# Altium footprint library Connector_Samtec_HSEC8.PcbLib: 133 footprints (part 1 of 9)
Each footprint in its own frame and in the unit in brackets; x right, y up, seen from the top. Pads: shape width x height; smd on the part's side, far side on the other; paste and mask are expansions set on the pad; w line width, h text height; cw(c..) or ccw(c..) is an arc to the next point about the centre after c.
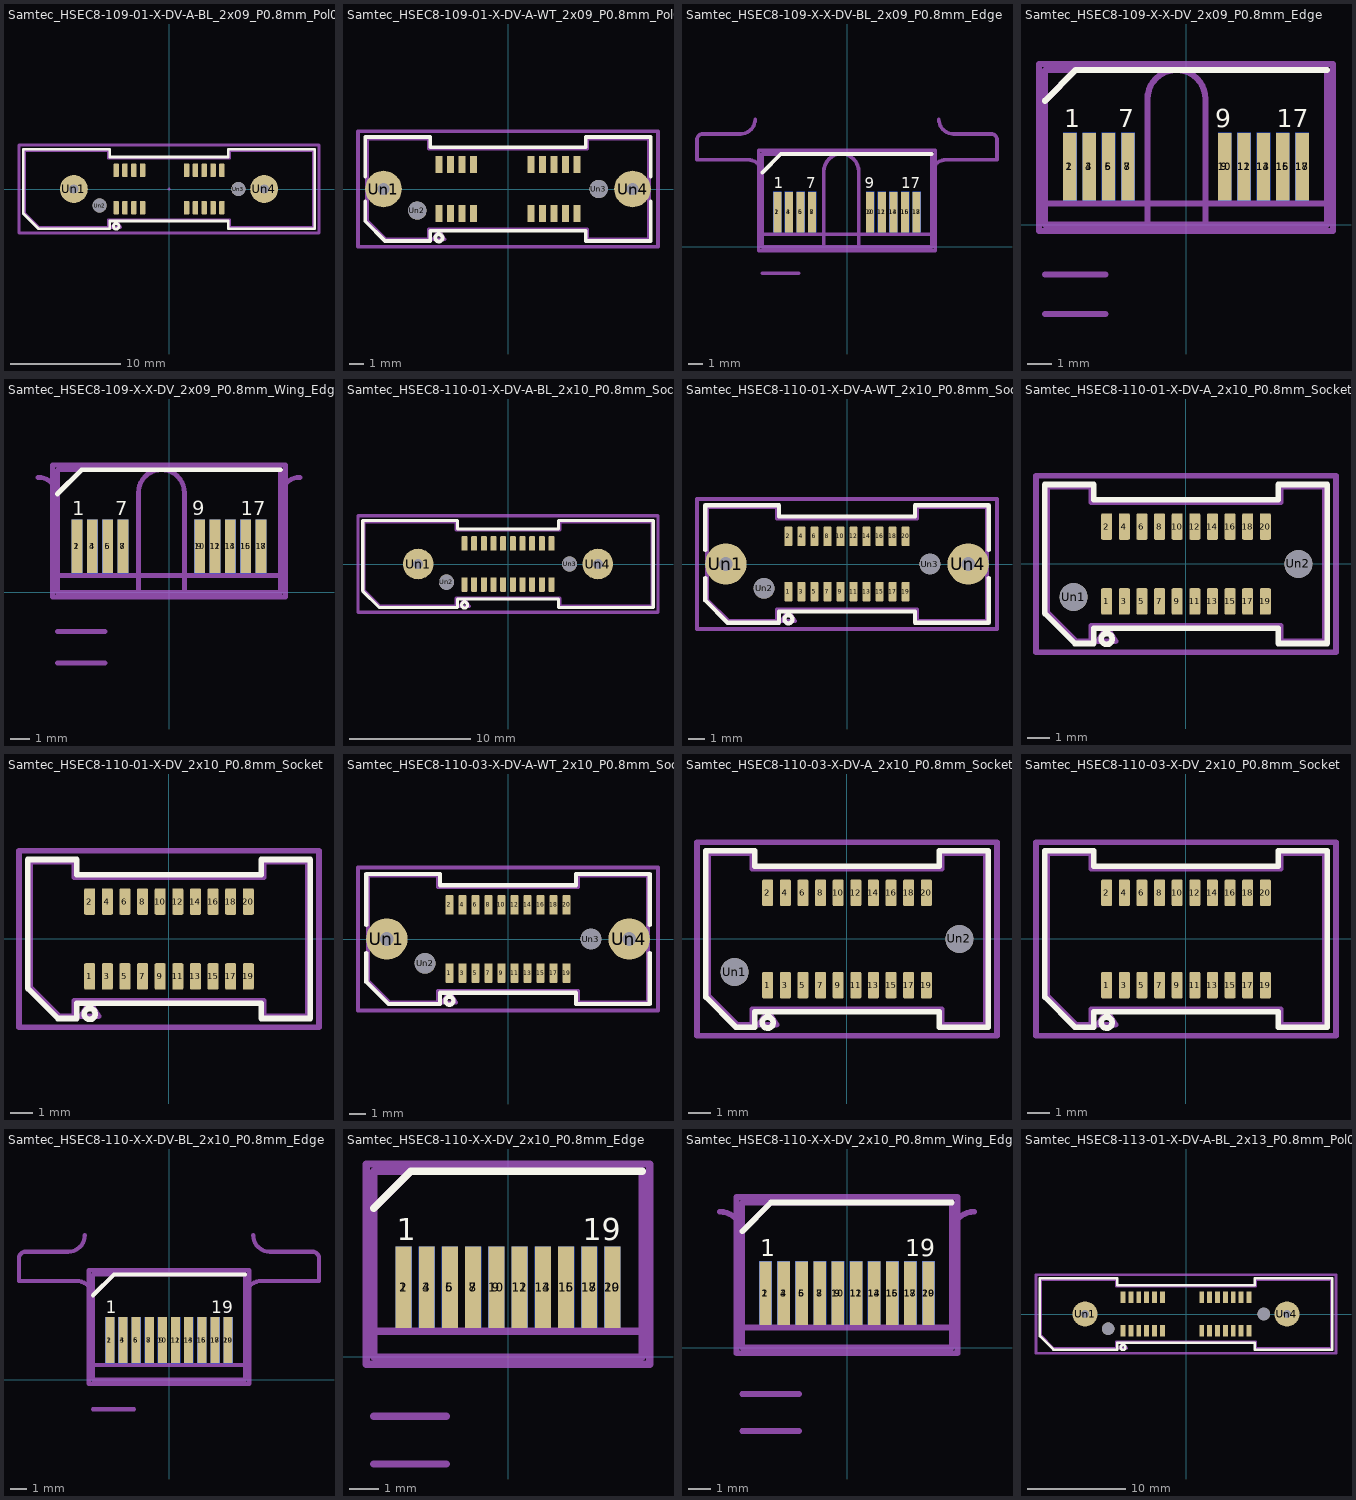
[diagram p0: the footprints below, top view; thin cyan lines are the x and y axes]

## Samtec_HSEC8-109-01-X-DV-A-BL_2x09_P0.8mm_Pol04_Socket_WeldTabs_BoardLocks [mm]
pads (22):
  rrect25% 0.5x1.2 smd: 1(-4.8,-1.7) 2(-4.8,1.7) 3(-4,-1.7) 4(-4,1.7) 5(-3.2,-1.7) 6(-3.2,1.7) 7(-2.4,-1.7) 8(-2.4,1.7) 9(1.6,-1.7) 10(1.6,1.7) 11(2.4,-1.7) 12(2.4,1.7) 13(3.2,-1.7) 14(3.2,1.7) 15(4,-1.7) 16(4,1.7) 17(4.8,-1.7) 18(4.8,1.7)
  round 2.54 hole 0.84: Un1(-8.65,0) Un4(8.65,0)
  round 1.27 hole 1.27: Un2(-6.3,-1.5) Un3(6.3,0)
F.SilkS:
  circle w0.254: c-4.8,-3.4 r0.25
  lines w0.254: -13.235,-2.246 -11.871,-3.61 -5.39,-3.61 -5.39,-2.91 5.39,-2.91 5.39,-3.61 13.235,-3.61 13.235,3.61 5.39,3.61 5.39,2.91 -5.39,2.91 -5.39,3.61 -13.235,3.61 -13.235,-2.246
Top Component Center:
  lines w0.127: -0.127,0 0.127,0 ; 0,-0.127 0,0.127
Top Assembly:
  lines w0.254: -13.125,-2.2 -11.825,-3.5 -5.5,-3.5 -5.5,-2.8 5.5,-2.8 5.5,-3.5 13.125,-3.5 13.125,3.5 5.5,3.5 5.5,2.8 -5.5,2.8 -5.5,3.5 -13.125,3.5 -13.125,-2.2 ; -5.2,-3.5 -4.4,-3.5 -4.8,-2.86 -5.2,-3.5
  text "'.Designator'" at -4.047,-0.84 h1
Top Courtyard:
  lines w0.254: -13.63,-4 13.63,-4 13.63,4 -13.63,4 -13.63,-4
Top Designator:
  text ".Designator" at -7.618,-0.508 h1.52

## Samtec_HSEC8-109-01-X-DV-A-WT_2x09_P0.8mm_Pol04_Socket_WeldTabs [mm]
pads (22):
  rrect25% 0.5x1.2 smd: 1(-4.8,-1.7) 2(-4.8,1.7) 3(-4,-1.7) 4(-4,1.7) 5(-3.2,-1.7) 6(-3.2,1.7) 7(-2.4,-1.7) 8(-2.4,1.7) 9(1.6,-1.7) 10(1.6,1.7) 11(2.4,-1.7) 12(2.4,1.7) 13(3.2,-1.7) 14(3.2,1.7) 15(4,-1.7) 16(4,1.7) 17(4.8,-1.7) 18(4.8,1.7)
  round 2.54 hole 0.84: Un1(-8.65,0) Un4(8.65,0)
  round 1.27 hole 1.27: Un2(-6.3,-1.5) Un3(6.3,0)
F.SilkS:
  circle w0.254: c-4.8,-3.4 r0.25
  lines w0.254: -9.91,-0.868 -9.91,-2.246 -8.546,-3.61 -5.39,-3.61 -5.39,-2.91 5.39,-2.91 5.39,-3.61 9.91,-3.61 9.91,-0.868 ; -9.91,0.868 -9.91,3.61 -5.39,3.61 -5.39,2.91 5.39,2.91 5.39,3.61 9.91,3.61 9.91,0.868
Top Assembly:
  lines w0.254: -9.8,-2.2 -8.5,-3.5 -5.5,-3.5 -5.5,-2.8 5.5,-2.8 5.5,-3.5 9.8,-3.5 9.8,3.5 5.5,3.5 5.5,2.8 -5.5,2.8 -5.5,3.5 -9.8,3.5 -9.8,-2.2 ; -5.2,-3.5 -4.4,-3.5 -4.8,-2.86 -5.2,-3.5
  text "'.Designator'" at -4.047,-0.84 h1
Top Courtyard:
  lines w0.254: -10.42,-4 10.42,-4 10.42,4 -10.42,4 -10.42,-4
Top Designator:
  text ".Designator" at -7.618,-0.508 h1.52

## Samtec_HSEC8-109-X-X-DV-BL_2x09_P0.8mm_Edge [mm]
pads (18):
  rect 0.55x2.8 smd: 1(-4.8,2.4) 3(-4,2.4) 5(-3.2,2.4) 7(-2.4,2.4) 9(1.6,2.4) 11(2.4,2.4) 13(3.2,2.4) 15(4,2.4) 17(4.8,2.4)
  rect 0.55x2.8 smd far side: 2(-4.8,2.4) 4(-4,2.4) 6(-3.2,2.4) 8(-2.4,2.4) 10(1.6,2.4) 12(2.4,2.4) 14(3.2,2.4) 16(4,2.4) 18(4.8,2.4)
F.SilkS:
  lines w0.254: -5.825,5.13 -4.555,6.4 5.825,6.4
  text "17" at 3.75,4.025 h0.75
  text "9" at 1.218,4.025 h0.75
  text "7" at -2.8,4.025 h0.75
  text "1" at -5.039,4.025 h0.75
B.SilkS:
  lines w0.254: -5.825,6.4 5.825,6.4
  text "18" at 5.1,4.025 h0.75
  text "10" at 2.65,4.025 h0.75
  text "8" at -2,4.025 h0.75
  text "2" at -4.4,4.025 h0.75
Top Assembly:
  lines w0.254: -5.825,0.88 5.825,0.88 ; -5.825,0 5.825,0 5.825,6.4 -4.555,6.4 -5.825,5.13 -5.825,0
  text "'.Designator'" at -4.047,1.7 h1
Bottom Assembly:
  lines w0.254: -5.825,0.88 5.825,0.88 ; -5.825,0 5.825,0 5.825,6.4 -5.825,6.4 -5.825,0
Top Courtyard:
  lines w0.254: -6.08,-0.25 6.08,-0.25 6.08,6.65 -6.08,6.65 -6.08,-0.25
Bottom Courtyard:
  lines w0.254: -6.08,-0.25 6.08,-0.25 6.08,6.65 -6.08,6.65 -6.08,-0.25
Top Designator:
  text ".Designator" at -4.93,2.485 h1.52
Board Shape:
  lines w0.254: -6.325,8.78 cw(c-7.325,8.78) -7.325,7.78 -9.925,7.78 ccw(c-9.925,7.38) -10.325,7.38 -10.325,6 -6.825,6 cw(c-6.825,5) -5.825,5 -5.825,0 -1.595,0 -1.595,5.2 cw(c-0.395,5.2) 0.805,5.2 0.805,0 5.825,0 5.825,5 cw(c6.825,5) 6.825,6 10.325,6 10.325,7.38 ccw(c9.925,7.38) 9.925,7.78 7.325,7.78 cw(c7.325,8.78) 6.325,8.78
Cmts.User:
  lines w0.254: -5.825,-1.8 -3.325,-1.8
  text "mated PCB distance: 1.80 mm (ref)" at -3.23,-2.521 h0.75
  text "Chamfer 30 degree 0.45 mm" at -7.868,-0.21 h0.75

## Samtec_HSEC8-109-X-X-DV_2x09_P0.8mm_Edge [mm]
pads (18):
  rect 0.55x2.8 smd: 1(-4.8,2.4) 3(-4,2.4) 5(-3.2,2.4) 7(-2.4,2.4) 9(1.6,2.4) 11(2.4,2.4) 13(3.2,2.4) 15(4,2.4) 17(4.8,2.4)
  rect 0.55x2.8 smd far side: 2(-4.8,2.4) 4(-4,2.4) 6(-3.2,2.4) 8(-2.4,2.4) 10(1.6,2.4) 12(2.4,2.4) 14(3.2,2.4) 16(4,2.4) 18(4.8,2.4)
F.SilkS:
  lines w0.254: -5.825,5.13 -4.555,6.4 5.825,6.4
  text "17" at 3.75,4.025 h0.75
  text "9" at 1.218,4.025 h0.75
  text "7" at -2.8,4.025 h0.75
  text "1" at -5.039,4.025 h0.75
B.SilkS:
  lines w0.254: -5.825,6.4 5.825,6.4
  text "18" at 5.1,4.025 h0.75
  text "10" at 2.65,4.025 h0.75
  text "8" at -2,4.025 h0.75
  text "2" at -4.4,4.025 h0.75
Top Assembly:
  lines w0.254: -5.825,0.88 5.825,0.88 ; -5.825,0 5.825,0 5.825,6.4 -4.555,6.4 -5.825,5.13 -5.825,0
  text "'.Designator'" at -4.047,1.7 h1
Bottom Assembly:
  lines w0.254: -5.825,0.88 5.825,0.88 ; -5.825,0 5.825,0 5.825,6.4 -5.825,6.4 -5.825,0
Top Courtyard:
  lines w0.254: -6.08,-0.25 6.08,-0.25 6.08,6.65 -6.08,6.65 -6.08,-0.25
Bottom Courtyard:
  lines w0.254: -6.08,-0.25 6.08,-0.25 6.08,6.65 -6.08,6.65 -6.08,-0.25
Top Designator:
  text ".Designator" at -3.242,0.475 h1.52
Board Shape:
  lines w0.254: -5.825,5 -5.825,0 -1.595,0 -1.595,5.2 cw(c-0.395,5.2) 0.805,5.2 0.805,0 5.825,0 5.825,5
Cmts.User:
  lines w0.254: -5.825,-3.69 -3.325,-3.69 ; -5.825,-2.05 -3.325,-2.05
  text "mated PCB distance: 3.69 mm (max)" at -3.23,-4.411 h0.75
  text "mated PCB distance: 2.05 mm (min)" at -3.23,-2.771 h0.75
  text "Chamfer 30 degree 0.45 mm" at -7.868,-0.21 h0.75

## Samtec_HSEC8-109-X-X-DV_2x09_P0.8mm_Wing_Edge [mm]
pads (18):
  rect 0.55x2.8 smd: 1(-4.8,2.4) 3(-4,2.4) 5(-3.2,2.4) 7(-2.4,2.4) 9(1.6,2.4) 11(2.4,2.4) 13(3.2,2.4) 15(4,2.4) 17(4.8,2.4)
  rect 0.55x2.8 smd far side: 2(-4.8,2.4) 4(-4,2.4) 6(-3.2,2.4) 8(-2.4,2.4) 10(1.6,2.4) 12(2.4,2.4) 14(3.2,2.4) 16(4,2.4) 18(4.8,2.4)
F.SilkS:
  lines w0.254: -5.825,5.13 -4.555,6.4 5.825,6.4
  text "17" at 3.75,4.025 h0.75
  text "9" at 1.218,4.025 h0.75
  text "7" at -2.8,4.025 h0.75
  text "1" at -5.039,4.025 h0.75
B.SilkS:
  lines w0.254: -5.825,6.4 5.825,6.4
  text "18" at 5.1,4.025 h0.75
  text "10" at 2.65,4.025 h0.75
  text "8" at -2,4.025 h0.75
  text "2" at -4.4,4.025 h0.75
Top Assembly:
  lines w0.254: -5.825,0.88 5.825,0.88 ; -5.825,0 5.825,0 5.825,6.4 -4.555,6.4 -5.825,5.13 -5.825,0
  text "'.Designator'" at -4.047,1.7 h1
Bottom Assembly:
  lines w0.254: -5.825,0.88 5.825,0.88 ; -5.825,0 5.825,0 5.825,6.4 -5.825,6.4 -5.825,0
Top Courtyard:
  lines w0.254: -6.08,-0.25 6.08,-0.25 6.08,6.65 -6.08,6.65 -6.08,-0.25
Bottom Courtyard:
  lines w0.254: -6.08,-0.25 6.08,-0.25 6.08,6.65 -6.08,6.65 -6.08,-0.25
Top Designator:
  text ".Designator" at -3.242,0.475 h1.52
Board Shape:
  lines w0.254: -6.825,6 cw(c-6.825,5) -5.825,5 -5.825,0 -1.595,0 -1.595,5.2 cw(c-0.395,5.2) 0.805,5.2 0.805,0 5.825,0 5.825,5 cw(c6.825,5) 6.825,6
Cmts.User:
  lines w0.254: -5.825,-3.69 -3.325,-3.69 ; -5.825,-2.05 -3.325,-2.05
  text "mated PCB distance: 3.69 mm (max)" at -3.23,-4.411 h0.75
  text "mated PCB distance: 2.05 mm (min)" at -3.23,-2.771 h0.75
  text "Chamfer 30 degree 0.45 mm" at -7.868,-0.21 h0.75

## Samtec_HSEC8-110-01-X-DV-A-BL_2x10_P0.8mm_Socket_WeldTabs_BoardLocks [mm]
pads (24):
  rrect25% 0.5x1.2 smd: 1(-3.6,-1.7) 2(-3.6,1.7) 3(-2.8,-1.7) 4(-2.8,1.7) 5(-2,-1.7) 6(-2,1.7) 7(-1.2,-1.7) 8(-1.2,1.7) 9(-0.4,-1.7) 10(-0.4,1.7) 11(0.4,-1.7) 12(0.4,1.7) 13(1.2,-1.7) 14(1.2,1.7) 15(2,-1.7) 16(2,1.7) 17(2.8,-1.7) 18(2.8,1.7) 19(3.6,-1.7) 20(3.6,1.7)
  round 2.54 hole 0.84: Un1(-7.45,0) Un4(7.45,0)
  round 1.27 hole 1.27: Un2(-5.1,-1.5) Un3(5.1,0)
F.SilkS:
  circle w0.254: c-3.6,-3.4 r0.25
  lines w0.254: -12.035,-2.246 -10.671,-3.61 -4.19,-3.61 -4.19,-2.91 4.19,-2.91 4.19,-3.61 12.035,-3.61 12.035,3.61 4.19,3.61 4.19,2.91 -4.19,2.91 -4.19,3.61 -12.035,3.61 -12.035,-2.246
Top Assembly:
  lines w0.254: -11.925,-2.2 -10.625,-3.5 -4.3,-3.5 -4.3,-2.8 4.3,-2.8 4.3,-3.5 11.925,-3.5 11.925,3.5 4.3,3.5 4.3,2.8 -4.3,2.8 -4.3,3.5 -11.925,3.5 -11.925,-2.2 ; -4,-3.5 -3.2,-3.5 -3.6,-2.86 -4,-3.5
  text "'.Designator'" at -4.047,-0.84 h1
Top Courtyard:
  lines w0.254: -12.43,-4 12.43,-4 12.43,4 -12.43,4 -12.43,-4
Top Designator:
  text ".Designator" at -7.618,-0.508 h1.52

## Samtec_HSEC8-110-01-X-DV-A-WT_2x10_P0.8mm_Socket_WeldTabs [mm]
pads (24):
  rrect25% 0.5x1.2 smd: 1(-3.6,-1.7) 2(-3.6,1.7) 3(-2.8,-1.7) 4(-2.8,1.7) 5(-2,-1.7) 6(-2,1.7) 7(-1.2,-1.7) 8(-1.2,1.7) 9(-0.4,-1.7) 10(-0.4,1.7) 11(0.4,-1.7) 12(0.4,1.7) 13(1.2,-1.7) 14(1.2,1.7) 15(2,-1.7) 16(2,1.7) 17(2.8,-1.7) 18(2.8,1.7) 19(3.6,-1.7) 20(3.6,1.7)
  round 2.54 hole 0.84: Un1(-7.45,0) Un4(7.45,0)
  round 1.27 hole 1.27: Un2(-5.1,-1.5) Un3(5.1,0)
F.SilkS:
  circle w0.254: c-3.6,-3.4 r0.25
  lines w0.254: -8.71,-0.868 -8.71,-2.246 -7.346,-3.61 -4.19,-3.61 -4.19,-2.91 4.19,-2.91 4.19,-3.61 8.71,-3.61 8.71,-0.868 ; -8.71,0.868 -8.71,3.61 -4.19,3.61 -4.19,2.91 4.19,2.91 4.19,3.61 8.71,3.61 8.71,0.868
Top Assembly:
  lines w0.254: -8.6,-2.2 -7.3,-3.5 -4.3,-3.5 -4.3,-2.8 4.3,-2.8 4.3,-3.5 8.6,-3.5 8.6,3.5 4.3,3.5 4.3,2.8 -4.3,2.8 -4.3,3.5 -8.6,3.5 -8.6,-2.2 ; -4,-3.5 -3.2,-3.5 -3.6,-2.86 -4,-3.5
  text "'.Designator'" at -4.047,-0.84 h1
Top Courtyard:
  lines w0.254: -9.22,-4 9.22,-4 9.22,4 -9.22,4 -9.22,-4
Top Designator:
  text ".Designator" at -7.618,-0.508 h1.52

## Samtec_HSEC8-110-01-X-DV-A_2x10_P0.8mm_Socket_AlignmentPins [mm]
pads (22):
  rrect25% 0.5x1.2 smd: 1(-3.6,-1.7) 2(-3.6,1.7) 3(-2.8,-1.7) 4(-2.8,1.7) 5(-2,-1.7) 6(-2,1.7) 7(-1.2,-1.7) 8(-1.2,1.7) 9(-0.4,-1.7) 10(-0.4,1.7) 11(0.4,-1.7) 12(0.4,1.7) 13(1.2,-1.7) 14(1.2,1.7) 15(2,-1.7) 16(2,1.7) 17(2.8,-1.7) 18(2.8,1.7) 19(3.6,-1.7) 20(3.6,1.7)
  round 1.27 hole 1.27: Un1(-5.1,-1.5) Un2(5.1,0)
F.SilkS:
  circle w0.254: c-3.6,-3.4 r0.25
  lines w0.254: -6.41,-2.246 -5.046,-3.61 -4.19,-3.61 -4.19,-2.91 4.19,-2.91 4.19,-3.61 6.41,-3.61 6.41,3.61 4.19,3.61 4.19,2.91 -4.19,2.91 -4.19,3.61 -6.41,3.61 -6.41,-2.246
Top Assembly:
  lines w0.254: -6.3,-2.2 -5,-3.5 -4.3,-3.5 -4.3,-2.8 4.3,-2.8 4.3,-3.5 6.3,-3.5 6.3,3.5 4.3,3.5 4.3,2.8 -4.3,2.8 -4.3,3.5 -6.3,3.5 -6.3,-2.2 ; -4,-3.5 -3.2,-3.5 -3.6,-2.86 -4,-3.5
  text "'.Designator'" at -4.047,-0.84 h1
Top Courtyard:
  lines w0.254: -6.81,-4 6.81,-4 6.81,4 -6.81,4 -6.81,-4
Top Designator:
  text ".Designator" at -7.618,-0.508 h1.52

## Samtec_HSEC8-110-01-X-DV_2x10_P0.8mm_Socket [mm]
pads (20):
  rrect25% 0.5x1.2 smd: 1(-3.6,-1.7) 2(-3.6,1.7) 3(-2.8,-1.7) 4(-2.8,1.7) 5(-2,-1.7) 6(-2,1.7) 7(-1.2,-1.7) 8(-1.2,1.7) 9(-0.4,-1.7) 10(-0.4,1.7) 11(0.4,-1.7) 12(0.4,1.7) 13(1.2,-1.7) 14(1.2,1.7) 15(2,-1.7) 16(2,1.7) 17(2.8,-1.7) 18(2.8,1.7) 19(3.6,-1.7) 20(3.6,1.7)
F.SilkS:
  circle w0.254: c-3.6,-3.4 r0.25
  lines w0.254: -6.41,-2.246 -5.046,-3.61 -4.19,-3.61 -4.19,-2.91 4.19,-2.91 4.19,-3.61 6.41,-3.61 6.41,3.61 4.19,3.61 4.19,2.91 -4.19,2.91 -4.19,3.61 -6.41,3.61 -6.41,-2.246
Top Assembly:
  lines w0.254: -6.3,-2.2 -5,-3.5 -4.3,-3.5 -4.3,-2.8 4.3,-2.8 4.3,-3.5 6.3,-3.5 6.3,3.5 4.3,3.5 4.3,2.8 -4.3,2.8 -4.3,3.5 -6.3,3.5 -6.3,-2.2 ; -4,-3.5 -3.2,-3.5 -3.6,-2.86 -4,-3.5
  text "'.Designator'" at -4.047,-0.84 h1
Top Courtyard:
  lines w0.254: -6.81,-4 6.81,-4 6.81,4 -6.81,4 -6.81,-4
Top Designator:
  text ".Designator" at -7.618,-0.508 h1.52

## Samtec_HSEC8-110-03-X-DV-A-WT_2x10_P0.8mm_Socket_WeldTabs [mm]
pads (24):
  rrect25% 0.5x1.2 smd: 1(-3.6,-2.095) 2(-3.6,2.095) 3(-2.8,-2.095) 4(-2.8,2.095) 5(-2,-2.095) 6(-2,2.095) 7(-1.2,-2.095) 8(-1.2,2.095) 9(-0.4,-2.095) 10(-0.4,2.095) 11(0.4,-2.095) 12(0.4,2.095) 13(1.2,-2.095) 14(1.2,2.095) 15(2,-2.095) 16(2,2.095) 17(2.8,-2.095) 18(2.8,2.095) 19(3.6,-2.095) 20(3.6,2.095)
  round 2.54 hole 0.84: Un1(-7.45,0) Un4(7.45,0)
  round 1.27 hole 1.27: Un2(-5.1,-1.5) Un3(5.1,0)
F.SilkS:
  circle w0.254: c-3.6,-3.795 r0.25
  lines w0.254: -8.71,-0.868 -8.71,-2.641 -7.346,-4.005 -4.19,-4.005 -4.19,-3.305 4.19,-3.305 4.19,-4.005 8.71,-4.005 8.71,-0.868 ; -8.71,0.868 -8.71,4.005 -4.19,4.005 -4.19,3.305 4.19,3.305 4.19,4.005 8.71,4.005 8.71,0.868
Top Assembly:
  lines w0.254: -8.6,-2.595 -7.3,-3.895 -4.3,-3.895 -4.3,-3.195 4.3,-3.195 4.3,-3.895 8.6,-3.895 8.6,3.895 4.3,3.895 4.3,3.195 -4.3,3.195 -4.3,3.895 -8.6,3.895 -8.6,-2.595 ; -4,-3.895 -3.2,-3.895 -3.6,-3.255 -4,-3.895
  text "'.Designator'" at -4.047,-0.84 h1
Top Courtyard:
  lines w0.254: -9.22,-4.4 9.22,-4.4 9.22,4.4 -9.22,4.4 -9.22,-4.4
Top Designator:
  text ".Designator" at -7.618,-0.508 h1.52

## Samtec_HSEC8-110-03-X-DV-A_2x10_P0.8mm_Socket_AlignmentPins [mm]
pads (22):
  rrect25% 0.5x1.2 smd: 1(-3.6,-2.095) 2(-3.6,2.095) 3(-2.8,-2.095) 4(-2.8,2.095) 5(-2,-2.095) 6(-2,2.095) 7(-1.2,-2.095) 8(-1.2,2.095) 9(-0.4,-2.095) 10(-0.4,2.095) 11(0.4,-2.095) 12(0.4,2.095) 13(1.2,-2.095) 14(1.2,2.095) 15(2,-2.095) 16(2,2.095) 17(2.8,-2.095) 18(2.8,2.095) 19(3.6,-2.095) 20(3.6,2.095)
  round 1.27 hole 1.27: Un1(-5.1,-1.5) Un2(5.1,0)
F.SilkS:
  circle w0.254: c-3.6,-3.795 r0.25
  lines w0.254: -6.41,-2.641 -5.046,-4.005 -4.19,-4.005 -4.19,-3.305 4.19,-3.305 4.19,-4.005 6.41,-4.005 6.41,4.005 4.19,4.005 4.19,3.305 -4.19,3.305 -4.19,4.005 -6.41,4.005 -6.41,-2.641
Top Assembly:
  lines w0.254: -6.3,-2.595 -5,-3.895 -4.3,-3.895 -4.3,-3.195 4.3,-3.195 4.3,-3.895 6.3,-3.895 6.3,3.895 4.3,3.895 4.3,3.195 -4.3,3.195 -4.3,3.895 -6.3,3.895 -6.3,-2.595 ; -4,-3.895 -3.2,-3.895 -3.6,-3.255 -4,-3.895
  text "'.Designator'" at -4.047,-0.84 h1
Top Courtyard:
  lines w0.254: -6.81,-4.4 6.81,-4.4 6.81,4.4 -6.81,4.4 -6.81,-4.4
Top Designator:
  text ".Designator" at -7.618,-0.508 h1.52

## Samtec_HSEC8-110-03-X-DV_2x10_P0.8mm_Socket [mm]
pads (20):
  rrect25% 0.5x1.2 smd: 1(-3.6,-2.095) 2(-3.6,2.095) 3(-2.8,-2.095) 4(-2.8,2.095) 5(-2,-2.095) 6(-2,2.095) 7(-1.2,-2.095) 8(-1.2,2.095) 9(-0.4,-2.095) 10(-0.4,2.095) 11(0.4,-2.095) 12(0.4,2.095) 13(1.2,-2.095) 14(1.2,2.095) 15(2,-2.095) 16(2,2.095) 17(2.8,-2.095) 18(2.8,2.095) 19(3.6,-2.095) 20(3.6,2.095)
F.SilkS:
  circle w0.254: c-3.6,-3.795 r0.25
  lines w0.254: -6.41,-2.641 -5.046,-4.005 -4.19,-4.005 -4.19,-3.305 4.19,-3.305 4.19,-4.005 6.41,-4.005 6.41,4.005 4.19,4.005 4.19,3.305 -4.19,3.305 -4.19,4.005 -6.41,4.005 -6.41,-2.641
Top Assembly:
  lines w0.254: -6.3,-2.595 -5,-3.895 -4.3,-3.895 -4.3,-3.195 4.3,-3.195 4.3,-3.895 6.3,-3.895 6.3,3.895 4.3,3.895 4.3,3.195 -4.3,3.195 -4.3,3.895 -6.3,3.895 -6.3,-2.595 ; -4,-3.895 -3.2,-3.895 -3.6,-3.255 -4,-3.895
  text "'.Designator'" at -4.047,-0.84 h1
Top Courtyard:
  lines w0.254: -6.81,-4.4 6.81,-4.4 6.81,4.4 -6.81,4.4 -6.81,-4.4
Top Designator:
  text ".Designator" at -7.618,-0.508 h1.52

## Samtec_HSEC8-110-X-X-DV-BL_2x10_P0.8mm_Edge [mm]
pads (20):
  rect 0.55x2.8 smd: 1(-3.6,2.4) 3(-2.8,2.4) 5(-2,2.4) 7(-1.2,2.4) 9(-0.4,2.4) 11(0.4,2.4) 13(1.2,2.4) 15(2,2.4) 17(2.8,2.4) 19(3.6,2.4)
  rect 0.55x2.8 smd far side: 2(-3.6,2.4) 4(-2.8,2.4) 6(-2,2.4) 8(-1.2,2.4) 10(-0.4,2.4) 12(0.4,2.4) 14(1.2,2.4) 16(2,2.4) 18(2.8,2.4) 20(3.6,2.4)
F.SilkS:
  lines w0.254: -4.625,5.13 -3.355,6.4 4.625,6.4
  text "19" at 2.568,4.025 h0.75
  text "1" at -3.839,4.025 h0.75
B.SilkS:
  lines w0.254: -4.625,6.4 4.625,6.4
  text "20" at 3.959,4.025 h0.75
  text "2" at -3.2,4.025 h0.75
Top Assembly:
  lines w0.254: -4.625,0.88 4.625,0.88 ; -4.625,0 4.625,0 4.625,6.4 -3.355,6.4 -4.625,5.13 -4.625,0
  text "'.Designator'" at -4.047,1.7 h1
Bottom Assembly:
  lines w0.254: -4.625,0.88 4.625,0.88 ; -4.625,0 4.625,0 4.625,6.4 -4.625,6.4 -4.625,0
Top Courtyard:
  lines w0.254: -4.88,-0.25 4.88,-0.25 4.88,6.65 -4.88,6.65 -4.88,-0.25
Bottom Courtyard:
  lines w0.254: -4.88,-0.25 4.88,-0.25 4.88,6.65 -4.88,6.65 -4.88,-0.25
Top Designator:
  text ".Designator" at -3.73,2.485 h1.52
Board Shape:
  lines w0.254: -5.125,8.78 cw(c-6.125,8.78) -6.125,7.78 -8.725,7.78 ccw(c-8.725,7.38) -9.125,7.38 -9.125,6 -5.625,6 cw(c-5.625,5) -4.625,5 -4.625,0 4.625,0 4.625,5 cw(c5.625,5) 5.625,6 9.125,6 9.125,7.38 ccw(c8.725,7.38) 8.725,7.78 6.125,7.78 cw(c6.125,8.78) 5.125,8.78
Cmts.User:
  lines w0.254: -4.625,-1.8 -2.125,-1.8
  text "mated PCB distance: 1.80 mm (ref)" at -2.03,-2.521 h0.75
  text "Chamfer 30 degree 0.45 mm" at -7.868,-0.21 h0.75

## Samtec_HSEC8-110-X-X-DV_2x10_P0.8mm_Edge [mm]
pads (20):
  rect 0.55x2.8 smd: 1(-3.6,2.4) 3(-2.8,2.4) 5(-2,2.4) 7(-1.2,2.4) 9(-0.4,2.4) 11(0.4,2.4) 13(1.2,2.4) 15(2,2.4) 17(2.8,2.4) 19(3.6,2.4)
  rect 0.55x2.8 smd far side: 2(-3.6,2.4) 4(-2.8,2.4) 6(-2,2.4) 8(-1.2,2.4) 10(-0.4,2.4) 12(0.4,2.4) 14(1.2,2.4) 16(2,2.4) 18(2.8,2.4) 20(3.6,2.4)
F.SilkS:
  lines w0.254: -4.625,5.13 -3.355,6.4 4.625,6.4
  text "19" at 2.568,4.025 h0.75
  text "1" at -3.839,4.025 h0.75
B.SilkS:
  lines w0.254: -4.625,6.4 4.625,6.4
  text "20" at 3.959,4.025 h0.75
  text "2" at -3.2,4.025 h0.75
Top Assembly:
  lines w0.254: -4.625,0.88 4.625,0.88 ; -4.625,0 4.625,0 4.625,6.4 -3.355,6.4 -4.625,5.13 -4.625,0
  text "'.Designator'" at -4.047,1.7 h1
Bottom Assembly:
  lines w0.254: -4.625,0.88 4.625,0.88 ; -4.625,0 4.625,0 4.625,6.4 -4.625,6.4 -4.625,0
Top Courtyard:
  lines w0.254: -4.88,-0.25 4.88,-0.25 4.88,6.65 -4.88,6.65 -4.88,-0.25
Bottom Courtyard:
  lines w0.254: -4.88,-0.25 4.88,-0.25 4.88,6.65 -4.88,6.65 -4.88,-0.25
Top Designator:
  text ".Designator" at -2.642,0.475 h1.52
Board Shape:
  lines w0.254: -4.625,5 -4.625,0 4.625,0 4.625,5
Cmts.User:
  lines w0.254: -4.625,-3.69 -2.125,-3.69 ; -4.625,-2.05 -2.125,-2.05
  text "mated PCB distance: 3.69 mm (max)" at -2.03,-4.411 h0.75
  text "mated PCB distance: 2.05 mm (min)" at -2.03,-2.771 h0.75
  text "Chamfer 30 degree 0.45 mm" at -7.868,-0.21 h0.75

## Samtec_HSEC8-110-X-X-DV_2x10_P0.8mm_Wing_Edge [mm]
pads (20):
  rect 0.55x2.8 smd: 1(-3.6,2.4) 3(-2.8,2.4) 5(-2,2.4) 7(-1.2,2.4) 9(-0.4,2.4) 11(0.4,2.4) 13(1.2,2.4) 15(2,2.4) 17(2.8,2.4) 19(3.6,2.4)
  rect 0.55x2.8 smd far side: 2(-3.6,2.4) 4(-2.8,2.4) 6(-2,2.4) 8(-1.2,2.4) 10(-0.4,2.4) 12(0.4,2.4) 14(1.2,2.4) 16(2,2.4) 18(2.8,2.4) 20(3.6,2.4)
F.SilkS:
  lines w0.254: -4.625,5.13 -3.355,6.4 4.625,6.4
  text "19" at 2.568,4.025 h0.75
  text "1" at -3.839,4.025 h0.75
B.SilkS:
  lines w0.254: -4.625,6.4 4.625,6.4
  text "20" at 3.959,4.025 h0.75
  text "2" at -3.2,4.025 h0.75
Top Assembly:
  lines w0.254: -4.625,0.88 4.625,0.88 ; -4.625,0 4.625,0 4.625,6.4 -3.355,6.4 -4.625,5.13 -4.625,0
  text "'.Designator'" at -4.047,1.7 h1
Bottom Assembly:
  lines w0.254: -4.625,0.88 4.625,0.88 ; -4.625,0 4.625,0 4.625,6.4 -4.625,6.4 -4.625,0
Top Courtyard:
  lines w0.254: -4.88,-0.25 4.88,-0.25 4.88,6.65 -4.88,6.65 -4.88,-0.25
Bottom Courtyard:
  lines w0.254: -4.88,-0.25 4.88,-0.25 4.88,6.65 -4.88,6.65 -4.88,-0.25
Top Designator:
  text ".Designator" at -2.642,0.475 h1.52
Board Shape:
  lines w0.254: -5.625,6 cw(c-5.625,5) -4.625,5 -4.625,0 4.625,0 4.625,5 cw(c5.625,5) 5.625,6
Cmts.User:
  lines w0.254: -4.625,-3.69 -2.125,-3.69 ; -4.625,-2.05 -2.125,-2.05
  text "mated PCB distance: 3.69 mm (max)" at -2.03,-4.411 h0.75
  text "mated PCB distance: 2.05 mm (min)" at -2.03,-2.771 h0.75
  text "Chamfer 30 degree 0.45 mm" at -7.868,-0.21 h0.75

## Samtec_HSEC8-113-01-X-DV-A-BL_2x13_P0.8mm_Pol06_Socket_WeldTabs_BoardLocks [mm]
pads (30):
  rrect25% 0.5x1.2 smd: 1(-6.4,-1.7) 2(-6.4,1.7) 3(-5.6,-1.7) 4(-5.6,1.7) 5(-4.8,-1.7) 6(-4.8,1.7) 7(-4,-1.7) 8(-4,1.7) 9(-3.2,-1.7) 10(-3.2,1.7) 11(-2.4,-1.7) 12(-2.4,1.7) 13(1.6,-1.7) 14(1.6,1.7) 15(2.4,-1.7) 16(2.4,1.7) 17(3.2,-1.7) 18(3.2,1.7) 19(4,-1.7) 20(4,1.7) 21(4.8,-1.7) 22(4.8,1.7) 23(5.6,-1.7) 24(5.6,1.7) 25(6.4,-1.7) 26(6.4,1.7)
  round 2.54 hole 0.84: Un1(-10.25,0) Un4(10.25,0)
  round 1.27 hole 1.27: Un2(-7.9,-1.5) Un3(7.9,0)
F.SilkS:
  circle w0.254: c-6.4,-3.4 r0.25
  lines w0.254: -14.835,-2.246 -13.471,-3.61 -6.99,-3.61 -6.99,-2.91 6.99,-2.91 6.99,-3.61 14.835,-3.61 14.835,3.61 6.99,3.61 6.99,2.91 -6.99,2.91 -6.99,3.61 -14.835,3.61 -14.835,-2.246
Top Assembly:
  lines w0.254: -14.725,-2.2 -13.425,-3.5 -7.1,-3.5 -7.1,-2.8 7.1,-2.8 7.1,-3.5 14.725,-3.5 14.725,3.5 7.1,3.5 7.1,2.8 -7.1,2.8 -7.1,3.5 -14.725,3.5 -14.725,-2.2 ; -6.8,-3.5 -6,-3.5 -6.4,-2.86 -6.8,-3.5
  text "'.Designator'" at -4.047,-0.84 h1
Top Courtyard:
  lines w0.254: -15.23,-4 15.23,-4 15.23,4 -15.23,4 -15.23,-4
Top Designator:
  text ".Designator" at -7.618,-0.508 h1.52